# Altium footprint library ElectroMechanical.PcbLib: 5 footprints
Each footprint in its own frame and in the unit in brackets; x right, y up, seen from the top. Pads: shape width x height; smd on the part's side, far side on the other; paste and mask are expansions set on the pad; w line width, h text height; cw(c..) or ccw(c..) is an arc to the next point about the centre after c.
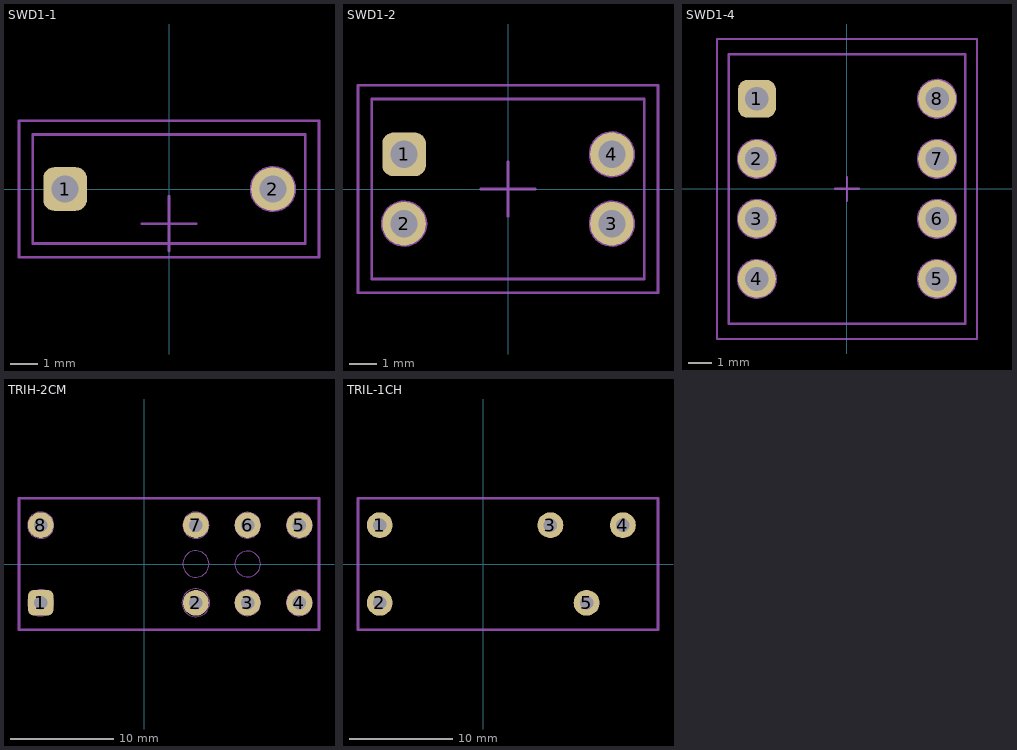
[diagram p0: the footprints below, top view; thin cyan lines are the x and y axes]

## SWD1-1 [mm] "DIP Switch SPST x1"
height 6.3
pads (2):
  rrect50% 1.6x1.6 hole 1: 1(-3.81,0)
  round 1.6 hole 1: 2(3.81,0)
Mechanical 4:
  text ".Designator" at -3.23,-1.46 h2
Mechanical 13:
  lines w0.1: -5,-2 -5,2 5,2 5,-2 -5,-2
  text "1" at -3.81,0.635 h3
  text "ON" at 2.54,1.835 h3
Mechanical 14:
  circle w0.1: c3.81,0 r0.8
  lines w0.1: -4.445,-0.635 -4.445,0.635 -3.175,0.635 -3.175,-0.635 -4.445,-0.635
Mechanical 15:
  lines w0.1: -1,-1.27 1,-1.27 ; 0,-2.27 0,-0.27 ; -5.5,-2.5 5.5,-2.5 5.5,2.5 -5.5,2.5 -5.5,-2.5
3D body: height 5.4, standoff 5.3, extent 0,-0.635 2.54,0.635
3D body: height 6.3, standoff 5.3, extent -2.54,-0.635 0,0.635
3D body: height 5.3, standoff 0, extent -5,-2 5,2.03
3D body: height 0, standoff -2, extent -3.9,-0.27 -3.7,0.33
3D body: height 0, standoff -2, extent 3.7,-0.37 3.9,0.23

## SWD1-2 [mm] "DIP Switch SPST x2"
height 6.3
pads (4):
  rrect50% 1.6x1.6 hole 1: 1(-3.81,1.27)
  round 1.6 hole 1: 2(-3.81,-1.27) 3(3.81,-1.27) 4(3.81,1.27)
Mechanical 4:
  text ".Designator" at -3.23,1.08 h2
Mechanical 13:
  lines w0.1: -5,-3.3 -5,3.3 5,3.3 5,-3.3 -5,-3.3
  text "2" at -3.81,-0.635 h3
  text "1" at -3.81,1.905 h3
  text "ON" at 2.54,1.905 h3
Mechanical 14:
  circle w0.1: c-3.81,-1.27 r0.8
  circle w0.1: c3.81,1.27 r0.8
  circle w0.1: c3.81,-1.27 r0.8
  lines w0.1: -4.445,0.635 -4.445,1.905 -3.175,1.905 -3.175,0.635 -4.445,0.635
Mechanical 15:
  lines w0.1: -1,0 1,0 ; 0,-1 0,1 ; -5.5,-3.8 5.5,-3.8 5.5,3.8 -5.5,3.8 -5.5,-3.8
3D body: height 5.4, standoff 5.3, extent 0,-1.905 2.54,-0.635
3D body: height 5.4, standoff 5.3, extent 0,0.635 2.54,1.905
3D body: height 6.3, standoff 5.3, extent -2.54,-1.905 0,-0.635
3D body: height 6.3, standoff 5.3, extent -2.54,0.635 0,1.905
3D body: height 5.3, standoff 0, extent -5,-3.3 5,3.3
3D body: height 0, standoff -2, extent -3.9,1 -3.7,1.6
3D body: height 0, standoff -2, extent 3.7,0.9 3.9,1.5
3D body: height 0, standoff -2, extent -3.9,-1.6 -3.7,-1
3D body: height 0, standoff -2, extent 3.7,-1.6 3.9,-1

## SWD1-4 [mm] "DIP Switch SPST x4"
height 6.3
pads (8):
  rrect50% 1.6x1.6 hole 1: 1(-3.81,3.81)
  round 1.6 hole 1: 2(-3.81,1.27) 3(-3.81,-1.27) 4(-3.81,-3.81) 5(3.81,-3.81) 6(3.81,-1.27) 7(3.81,1.27) 8(3.81,3.81)
Mechanical 13:
  lines w0.1: -5,-5.7 5,-5.7 5,5.7 -5,5.7 -5,-5.7
  text "4" at -3.81,-3.175 h3
  text "3" at -3.81,-0.635 h3
  text "ON" at 2.54,4.445 h3
  text "1" at -3.81,4.445 h3
  text "2" at -3.81,1.905 h3
Mechanical 14:
  circle w0.1: c3.81,1.27 r0.8
  circle w0.1: c3.81,3.81 r0.8
  circle w0.1: c-3.81,1.27 r0.8
  circle w0.1: c-3.81,-1.27 r0.8
  circle w0.1: c3.81,-1.27 r0.8
  circle w0.1: c-3.81,-3.81 r0.8
  circle w0.1: c3.81,-3.81 r0.8
  lines w0.1: -4.445,3.175 -3.175,3.175 -3.175,4.445 -4.445,4.445 -4.445,3.175
Mechanical 15:
  lines w0.1: -0.5,0 0.5,0 ; 0,-0.5 0,0.5 ; -5.5,-6.35 -5.5,6.34 5.5,6.34 5.5,-6.35 -5.5,-6.35
3D body: height 0, standoff -2, extent -3.9,-1.54 -3.7,-0.94
3D body: height 0, standoff -2, extent 3.7,-1.64 3.9,-1.04
3D body: height 0, standoff -2, extent -3.9,-4.14 -3.7,-3.54
3D body: height 0, standoff -2, extent 3.7,-4.14 3.9,-3.54
3D body: height 5.4, standoff 5.3, extent 0,-4.445 2.54,-3.175
3D body: height 5.4, standoff 5.3, extent 0,-1.905 2.54,-0.635
3D body: height 6.3, standoff 5.3, extent -2.54,-4.445 0,-3.175
3D body: height 6.3, standoff 5.3, extent -2.54,-1.905 0,-0.635
3D body: height 0, standoff -2, extent 3.7,0.94 3.9,1.54
3D body: height 0, standoff -2, extent -3.9,0.94 -3.7,1.54
3D body: height 0, standoff -2, extent 3.7,3.44 3.9,4.04
3D body: height 0, standoff -2, extent -3.9,3.54 -3.7,4.14
3D body: height 5.3, standoff 0, extent -5,-5.7 5,5.7
3D body: height 6.3, standoff 5.3, extent -2.54,3.175 0,4.445
3D body: height 6.3, standoff 5.3, extent -2.54,0.635 0,1.905
3D body: height 5.4, standoff 5.3, extent 0,3.175 2.54,4.445
3D body: height 5.4, standoff 5.3, extent 0,0.635 2.54,1.905

## TRIH-2CM [mm]
pads (8):
  rrect50% 2.5x2.5 hole 1.3: 1(-10,-3.75)
  round 2.5 hole 1.3: 2(5,-3.75) 3(10,-3.75) 4(15,-3.75) 5(15,3.75) 6(10,3.75) 7(5,3.75) 8(-10,3.75)
Mechanical 4:
  text ".Designator" at -7.5,0 h2
Mechanical 13:
  circle w0.1: c10,0 r1.25
  circle w0.1: c5,0 r1.275
  lines w0.254: -12.1,-6.35 16.9,-6.35 16.9,6.35 -12.1,6.35 -12.1,-6.35
Mechanical 14:
  circle w0.1: c-10,3.75 r1.275
  circle w0.1: c-10,-3.75 r1.275
  circle w0.1: c5,-3.75 r1.346
  circle w0.1: c10,-3.75 r1.25
  circle w0.1: c15,-3.75 r1.25
  circle w0.1: c15,3.75 r1.25
  circle w0.1: c10,3.75 r1.25
  circle w0.1: c5,3.75 r1.275
3D body: height 25.6, standoff 25.5, extent -6.5,4.5 -6,5
3D body: height 25.6, standoff 25.5, extent -6.5,3 -6,4
3D body: height 25.6, standoff 25.5, extent -9.5,2 -7,4
3D body: height 25.6, standoff 25.5, extent -11.5,3 -9,5
3D body: height 25.5, standoff 0, extent -12.1,-6.35 16.9,6.35

## TRIL-1CH [mm]
pads (5):
  round 2.5 hole 1.3: 1(-10,3.75) 2(-10,-3.75) 3(6.5,3.75) 4(13.5,3.75) 5(10,-3.75)
Mechanical 13:
  lines w0.254: -12.1,-6.35 -12.1,6.35 16.9,6.35 16.9,-6.35 -12.1,-6.35
3D body: height 15.7, standoff 0, extent -12.1,-6.35 16.9,6.35
3D body: height 15.8, standoff 15.7, extent -11.5,3 -9,5
3D body: height 15.8, standoff 15.7, extent -9.5,2 -7,4
3D body: height 15.8, standoff 15.7, extent -6.5,3 -6,4
3D body: height 15.8, standoff 15.7, extent -6.5,4.5 -6,5